# Altium integrated library Motorola Power Mgt Switching Circuit.IntLib: 3 symbols
Pins are listed as number, name and electrical type; pins without a type are passive.

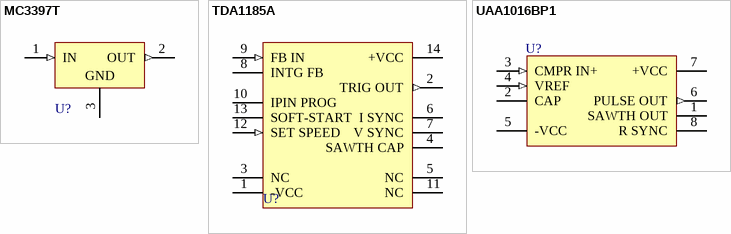
[diagram p0: symbols MC3397T to UAA1016BP1]

## MC3397T
designator U?
Series Switch Transient Protection Circuit; Published: 17-Jul-2002; DatasheetVersion: 1988; PackageReference: 221A-04; Publisher: Altium Limited; PackageDescription: TO, Thru-Hole, Vertical, Heatsink Mounted; 3 In-Line Leads; Pitch 2.54 mm; Code_JEDEC: TO-262-AA; ComponentLink1Description: Manufacturer Link; ComponentLink1URL: http://www.onsemi.com/site/products/taxonomy/0,4438,503,00.html
footprint 221A-04 (TO, Thru-Hole, Vertical, Heatsink Mounted; 3 In-Line Leads; Pitch 2.54 mm)
pins: 1 IN (in), 2 OUT (out), 3 GND (power)

## TDA1185A
designator U?
Triac Phase Angle Controller; Published: 17-Jul-2002; LatestRevisionDate: 06-Jun-2005; LatestRevisionNote: Stylized 3D Model Added.; DatasheetVersion: 1988; PackageVersion: 1997; PackageReference: 646-06; Publisher: Altium Limited; PackageDescription: DIP; 14 Leads; Row Spacing 7.62 mm; Pitch 2.54 mm; ComponentLink1Description: Manufacturer Link; ComponentLink1URL: http://www.onsemi.com/site/products/taxonomy/0,4438,503,00.html
footprint 646-06 (DIP; 14 Leads; Row Spacing 7.62 mm; Pitch 2.54 mm)
3D model 646-06 (DIP; 14 Leads; Row Spacing 7.62 mm; Pitch 2.54 mm)
pins: 1 -VCC (power), 2 TRIG OUT (out), 3 NC, 4 SAWTH CAP, 5 NC, 6 I SYNC, 7 V SYNC, 8 INTG FB, 9 FB IN (in), 10 IPIN PROG, 11 NC, 12 SET SPEED (in), 13 SOFT-START, 14 +VCC (power)

## UAA1016BP1
designator U?
Zero Voltage Controller; Published: 17-Jul-2002; LatestRevisionDate: 06-Jun-2005; LatestRevisionNote: Stylized 3D Model Added.; DatasheetVersion: 1988; PackageReference: 626-05; Publisher: Altium Limited; PackageDescription: DIP; 8 Leads; Row Spacing 7.62 mm; Pitch 2.54 mm; ComponentLink1Description: Manufacturer Link; ComponentLink1URL: http://www.onsemi.com/site/products/taxonomy/0,4438,503,00.html
footprint 626-05 (DIP; 8 Leads; Row Spacing 7.62 mm; Pitch 2.54 mm)
3D model 626-05 (DIP; 8 Leads; Row Spacing 7.62 mm; Pitch 2.54 mm)
pins: 1 SAWTH OUT (oe), 2 CAP, 3 CMPR IN+ (in), 4 VREF (in), 5 -VCC (power), 6 PULSE OUT (out), 7 +VCC (power), 8 R SYNC